# Altium integrated library WE-SL5 SMD Common Mode Line Filter.IntLib: 9 symbols
Pins are listed as number, name and electrical type; pins without a type are passive.

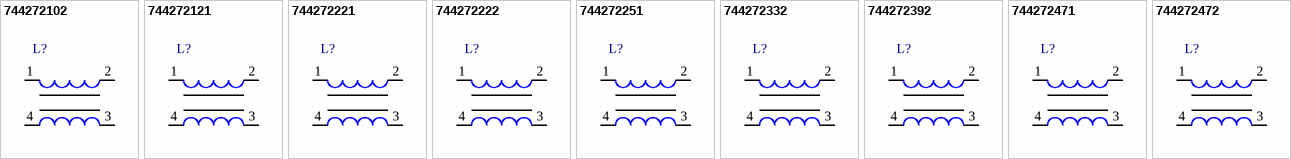
[diagram p0: symbols 744272102 to 744272472]

## 744272102
designator L?
SMD Common Mode Line Filter WE-SL5, L = 1000 µH; PartNumber: 744272102; Inductance: 1000 µH; DatasheetVersion: ver 4, Jan-2008; PackageReference: WE-SL5; PackageDescription: SMD Inductor, Body 9.0 x 10.3 mm; ComponentLink1Description: Manufacturer URL; ComponentLink1URL: http://www.we-online.com; ComponentLink2Description: Datasheet; ComponentLink2URL: http://www.we-online.de/katalog/media/pdf/744272102.pdf
footprint WE-SL5 (SMD Inductor, Body 9.0x10.3x6.5 mm)
pins: 1, 2, 3, 4

## 744272121
designator L?
SMD Common Mode Line Filter WE-SL5, L = 120 µH; PartNumber: 744272121; Inductance: 120 µH; DatasheetVersion: ver 4, Jan-2008; PackageReference: WE-SL5; PackageDescription: SMD Inductor, Body 9.0 x 10.3 mm; ComponentLink1Description: Manufacturer URL; ComponentLink1URL: http://www.we-online.com; ComponentLink2Description: Datasheet; ComponentLink2URL: http://www.we-online.de/katalog/media/pdf/744272121.pdf
footprint WE-SL5 (SMD Inductor, Body 9.0x10.3x6.5 mm)
pins: 1, 2, 3, 4

## 744272221
designator L?
SMD Common Mode Line Filter WE-SL5, L = 220 µH; PartNumber: 744272221; Inductance: 220 µH; DatasheetVersion: ver 4, Jan-2008; PackageReference: WE-SL5; PackageDescription: SMD Inductor, Body 9.0 x 10.3 mm; ComponentLink1Description: Manufacturer URL; ComponentLink1URL: http://www.we-online.com; ComponentLink2Description: Datasheet; ComponentLink2URL: http://www.we-online.de/katalog/media/pdf/744272221.pdf
footprint WE-SL5 (SMD Inductor, Body 9.0x10.3x6.5 mm)
pins: 1, 2, 3, 4

## 744272222
designator L?
SMD Common Mode Line Filter WE-SL5, L = 2200 µH; PartNumber: 744272222; Inductance: 2200 µH; DatasheetVersion: ver 4, Jan-2008; PackageReference: WE-SL5; PackageDescription: SMD Inductor, Body 9.0 x 10.3 mm; ComponentLink1Description: Manufacturer URL; ComponentLink1URL: http://www.we-online.com; ComponentLink2Description: Datasheet; ComponentLink2URL: http://www.we-online.de/katalog/media/pdf/744272222.pdf
footprint WE-SL5 (SMD Inductor, Body 9.0x10.3x6.5 mm)
pins: 1, 2, 3, 4

## 744272251
designator L?
SMD Common Mode Line Filter WE-SL5, L = 250 µH; PartNumber: 744272251; Inductance: 250 µH; DatasheetVersion: ver 4, Jan-2008; PackageReference: WE-SL5; PackageDescription: SMD Inductor, Body 9.0 x 10.3 mm; ComponentLink1Description: Manufacturer URL; ComponentLink1URL: http://www.we-online.com; ComponentLink2Description: Datasheet; ComponentLink2URL: http://www.we-online.de/katalog/media/pdf/744272251.pdf
footprint WE-SL5 (SMD Inductor, Body 9.0x10.3x6.5 mm)
pins: 1, 2, 3, 4

## 744272332
designator L?
SMD Common Mode Line Filter WE-SL5, L = 3300 µH; PartNumber: 744272332; Inductance: 3300 µH; DatasheetVersion: ver 4, Jan-2008; PackageReference: WE-SL5; PackageDescription: SMD Inductor, Body 9.0 x 10.3 mm; ComponentLink1Description: Manufacturer URL; ComponentLink1URL: http://www.we-online.com; ComponentLink2Description: Datasheet; ComponentLink2URL: http://www.we-online.de/katalog/media/pdf/744272332.pdf
footprint WE-SL5 (SMD Inductor, Body 9.0x10.3x6.5 mm)
pins: 1, 2, 3, 4

## 744272392
designator L?
SMD Common Mode Line Filter WE-SL5, L = 3900 µH; PartNumber: 744272392; Inductance: 3900 µH; DatasheetVersion: ver 4, Jan-2008; PackageReference: WE-SL5; PackageDescription: SMD Inductor, Body 9.0 x 10.3 mm; ComponentLink1Description: Manufacturer URL; ComponentLink1URL: http://www.we-online.com; ComponentLink2Description: Datasheet; ComponentLink2URL: http://www.we-online.de/katalog/media/pdf/744272392.pdf
footprint WE-SL5 (SMD Inductor, Body 9.0x10.3x6.5 mm)
pins: 1, 2, 3, 4

## 744272471
designator L?
SMD Common Mode Line Filter WE-SL5, L = 470 µH; PartNumber: 744272471; Inductance: 470 µH; DatasheetVersion: ver 4, Jan-2008; PackageReference: WE-SL5; PackageDescription: SMD Inductor, Body 9.0 x 10.3 mm; ComponentLink1Description: Manufacturer URL; ComponentLink1URL: http://www.we-online.com; ComponentLink2Description: Datasheet; ComponentLink2URL: http://www.we-online.de/katalog/media/pdf/744272471.pdf
footprint WE-SL5 (SMD Inductor, Body 9.0x10.3x6.5 mm)
pins: 1, 2, 3, 4

## 744272472
designator L?
SMD Common Mode Line Filter WE-SL5, L = 4700 µH; PartNumber: 744272472; Inductance: 4700 µH; DatasheetVersion: ver 4, Jan-2008; PackageReference: WE-SL5; PackageDescription: SMD Inductor, Body 9.0 x 10.3 mm; ComponentLink1Description: Manufacturer URL; ComponentLink1URL: http://www.we-online.com; ComponentLink2Description: Datasheet; ComponentLink2URL: http://www.we-online.de/katalog/media/pdf/744272472.pdf
footprint WE-SL5 (SMD Inductor, Body 9.0x10.3x6.5 mm)
pins: 1, 2, 3, 4